# Altium footprint library SW-TH_SS-12D01-GX.PcbLib: 1 footprints
Each footprint in its own frame and in the unit in brackets; x right, y up, seen from the top. Pads: shape width x height; smd on the part's side, far side on the other; paste and mask are expansions set on the pad; w line width, h text height; cw(c..) or ccw(c..) is an arc to the next point about the centre after c.
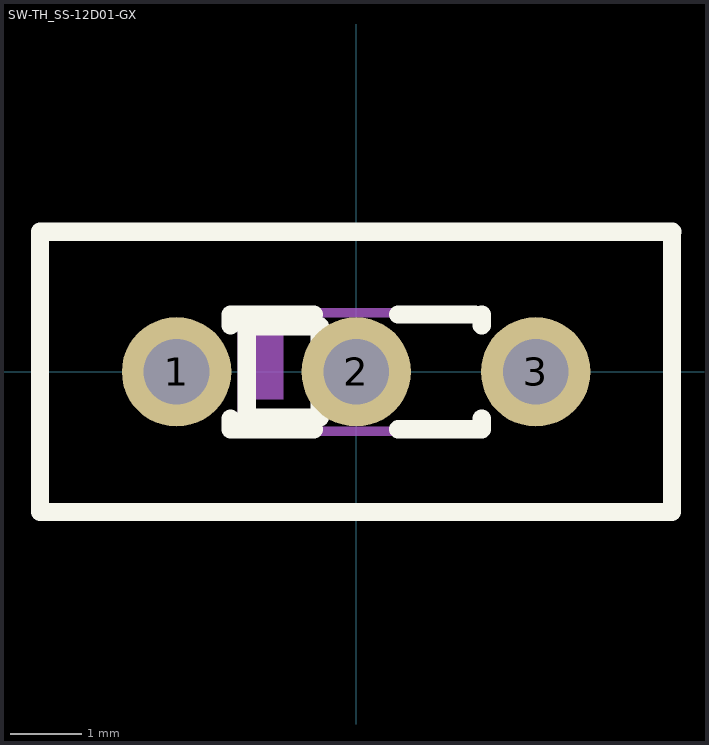
[diagram p0: the footprint, top view; thin cyan lines are the x and y axes]

## SW-TH_SS-12D01-GX [mil]
pads (3):
  round 60 hole 36: 1(-98.43,0) 2(-0.01,0) 3(98.42,0)
Top Overlay:
  lines w10: -68.9,-25.58 -68.9,-31.5 -23.11,-31.5 ; -68.9,25.58 -68.9,31.5 -23.11,31.5 ; 23.09,-31.5 68.89,-31.5 68.89,-25.58 ; 23.09,31.5 65,31.5 ; 68.89,25.58 68.89,31.5 ; 173.19,-76.8 173.19,-38.7 173.19,76.8 ; 173.19,-76.77 -173.23,-76.77 -173.23,76.77 173.22,76.77 ; -60.01,-25 -60.01,25 -20,25 -20,-25 -60.01,-25
Mechanical 6:
  region: -55,20 -40,20 -40,-15 -55,-15
  region: -60,35 65,35 65,30 -60,30 -60,-30 65,-30 65,-35 -65,-35 -65,35
Mechanical 15:
  region: -108.27,5.91 -88.58,5.91 -88.58,-5.91 -108.27,-5.91
  region: -9.85,5.91 9.84,5.91 9.84,-5.91 -9.85,-5.91
  region: 88.58,5.91 108.27,5.91 108.27,-5.91 88.58,-5.91
  region: -170.87,-76.77 -170.87,-75.79 -172.25,-74.41 -174.21,-74.41 -175.59,-75.8 -175.59,-76.77 -175.59,-77.75 -174.21,-79.14 -172.25,-79.13 -170.87,-77.75 -170.87,-76.77
  lines w2: -173.23,-76.77 -173.23,76.77 173.23,76.77 173.23,-76.77 -173.23,-76.77